# Altium footprint library button.PcbLib: 1 footprints
Each footprint in its own frame and in the unit in brackets; x right, y up, seen from the top. Pads: shape width x height; smd on the part's side, far side on the other; paste and mask are expansions set on the pad; w line width, h text height; cw(c..) or ccw(c..) is an arc to the next point about the centre after c.
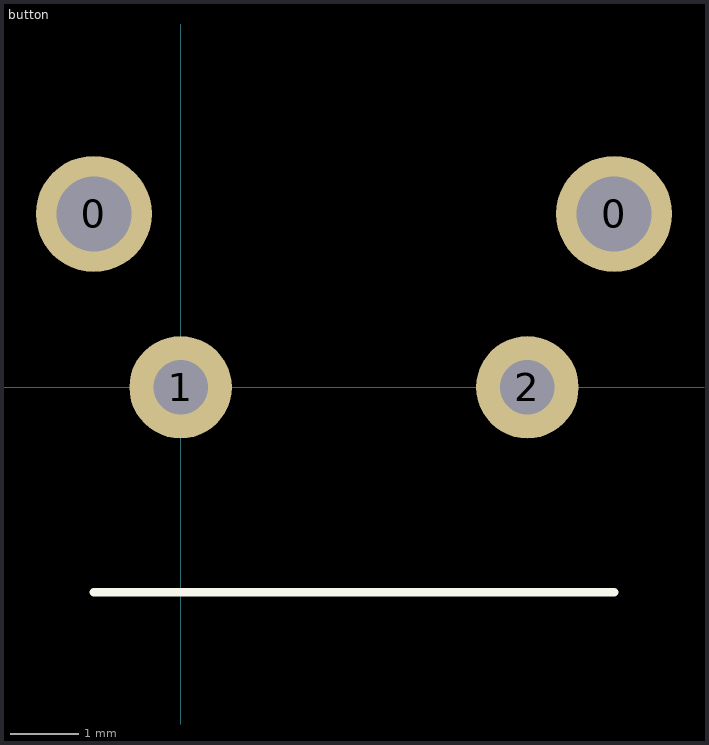
[diagram p0: the footprint, top view; thin cyan lines are the x and y axes]

## button [mm]
pads (4):
  round 1.7 hole 1.1: 0(-1.27,2.54) 0(6.35,2.54)
  round 1.5 hole 0.8: 1(0,0) 2(5.08,0)
Top Overlay:
  lines w0.127: -1.27,-3 6.35,-3